# EAGLE library part FEMALE_HEADER_10X2 (library connectors)
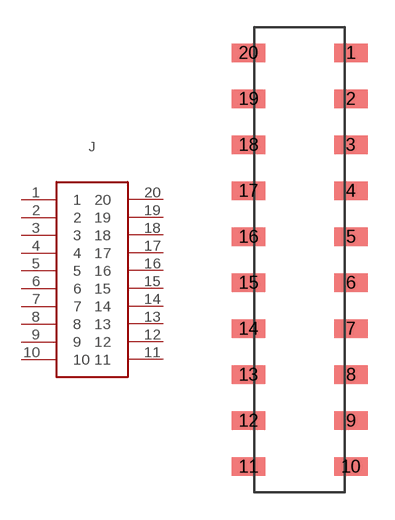
[diagram p8: symbol with the pads of 10X2_HEADER_SMT; footprint 10X2_HEADER_SMT]

Designator prefix J

## FEMALE_HEADER_10X2  [10X2_HEADER_SMT]
1  1
2  2
3  3
4  4
5  5
6  6
7  7
8  8
9  9
10  10
11  11
12  12
13  13
14  14
15  15
16  16
17  17
18  18
19  19
20  20

## Footprint 10X2_HEADER_SMT (pad centres in mm)
smd 1.85 x 1.02: 1 2.825,11.43; 2 2.825,8.89; 3 2.825,6.35; 4 2.825,3.81; 5 2.825,1.27; 6 2.825,-1.27; 7 2.825,-3.81; 8 2.825,-6.35; 9 2.825,-8.89; 10 2.825,-11.43; 11 -2.825,-11.43; 12 -2.825,-8.89; 13 -2.825,-6.35; 14 -2.825,-3.81; 15 -2.825,-1.27; 16 -2.825,1.27; 17 -2.825,3.81; 18 -2.825,6.35; 19 -2.825,8.89; 20 -2.825,11.43